# Altium footprint library 1-Pcblib_Res.PcbLib: 58 footprints (part 4 of 4)
Each footprint in its own frame and in the unit in brackets; x right, y up, seen from the top. Pads: shape width x height; smd on the part's side, far side on the other; paste and mask are expansions set on the pad; w line width, h text height; cw(c..) or ccw(c..) is an arc to the next point about the centre after c.
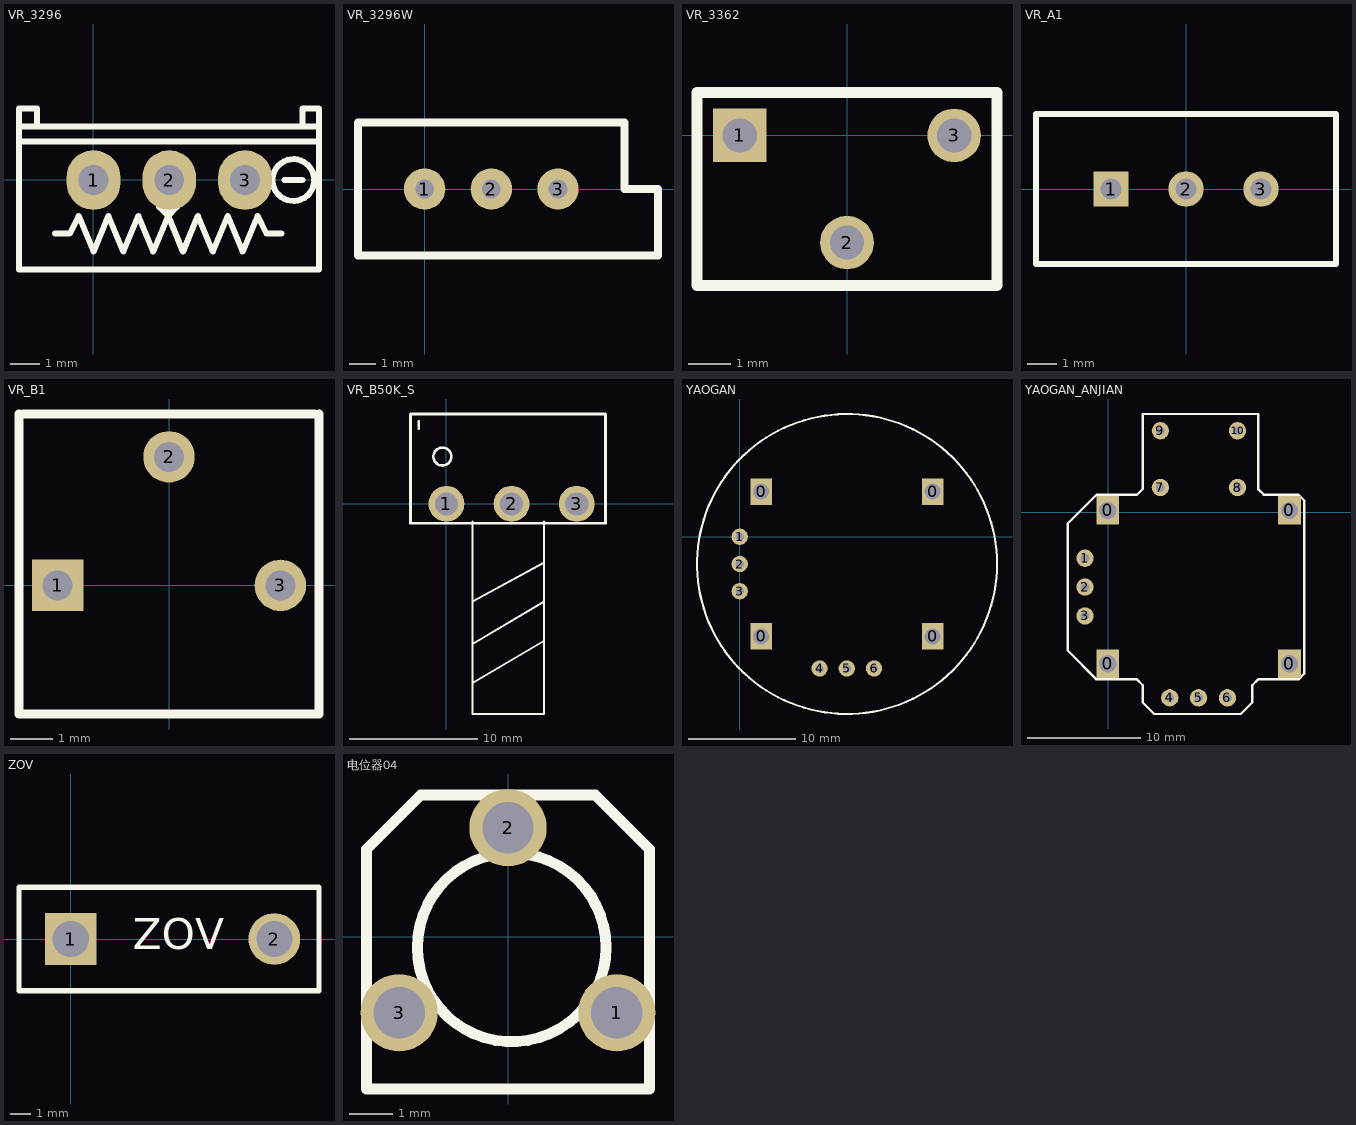
[diagram p3: the footprints below, top view; thin cyan lines are the x and y axes]

## VR_3296 [mm]
pads (3):
  oval 1.8x2 hole 1: 1(0.01,-0.013) 2(2.55,-0.013) 3(5.09,-0.013)
Top Overlay:
  circle w0.2: c6.71,-0.013 r0.7
  lines w0.2: -2.49,1.287 7.51,1.287 ; -1.89,1.787 -1.89,2.387 -2.49,2.387 -2.49,1.787 ; -1.29,-1.813 -0.79,-1.813 -0.49,-1.213 0.01,-2.413 0.51,-1.213 1.01,-2.413 1.51,-1.213 2.01,-2.413 2.51,-1.213 ; 2.21,-0.913 2.51,-1.213 ; 2.51,-0.013 2.51,-1.213 ; 2.81,-0.913 2.51,-1.213 ; 6.31,-1.813 5.81,-1.813 5.51,-1.213 5.01,-2.413 4.51,-1.213 4.01,-2.413 3.51,-1.213 3.01,-2.413 2.51,-1.213 ; 6.41,-0.013 7.01,-0.013 ; 7.01,1.787 7.01,2.387 7.51,2.387 ; 7.51,-3.013 -2.49,-3.013 -2.49,1.787 ; 7.51,1.787 -2.49,1.787 ; 7.57,-3.013 7.57,1.787 7.57,2.387

## VR_3296W [mil]
pads (3):
  round 62 hole 28: 1(0,0) 2(100,0) 3(200,0)
Top Overlay:
  lines w12: -100,-100 -100,100 300,100 300,0 350,0 350,-100 -100,-100

## VR_3362 [mil]
pads (3):
  rect 50x50 hole 32: 1(-100,0)
  round 50 hole 32: 2(0,-100) 3(100,0)
Top Overlay:
  lines w10: -140,-140 140,-140 140,40 -140,40 -140,-100 -140,-140

## VR_A1 [mm] "Potentiometer; 3 Leads"
height 1.1
pads (3):
  rect 1.2x1.2 hole 0.7: 1(-2.54,0)
  round 1.2 hole 0.7: 2(0,0) 3(2.54,0)
Top Overlay:
  lines w0.2: -5.08,-2.54 -5.08,2.54 5.08,2.54 5.08,0 5.08,-2.54 -5.08,-2.54
3D body: height 11.55, standoff -1.6, extent -4.765,-2.387 4.765,2.413

## VR_B1 [mm] "Potentiometer; 3 Leads"
height 12
pads (3):
  rect 1.2x1.2 hole 0.7: 1(-2.6,0)
  round 1.2 hole 0.7: 2(0,3) 3(2.6,0)
Top Overlay:
  lines w0.2: -3.5,4 -3.5,-3 3.5,-3 3.5,4 ; -3.4,4 3.4,4
3D body: height 4.7, standoff -5.47, extent -3.173,-3.302 3.427,3.752

## VR_B50K_S [mm]
pads (3):
  round 2.8 hole 1.8: 1(0,0) 2(5.08,0) 3(10.16,0)
Top Overlay:
  circle w0.2: c-0.319,3.683 r0.7
  lines w0.152: 2.032,-13.97 7.62,-10.668 ; 2.032,-10.922 7.62,-7.62 ; 2.032,-7.62 7.62,-4.572 ; 2.032,-1.383 2.032,-16.383 7.62,-16.383 7.62,-1.383
  lines w0.2: -2.159,5.842 -2.159,6.442 ; -2.8,-1.513 -2.8,7 12.4,7 12.4,-1.5 -2.8,-1.513

## YAOGAN [mm]
pads (10):
  rect 2x2.5 hole 1.5: 0(2,-9.29) 0(2,4.21) 0(18,-9.29) 0(18,4.21)
  round 1.524 hole 0.762: 1(0,0) 2(0,-2.54) 3(0,-5.08) 4(7.46,-12.29) 5(10,-12.29) 6(12.54,-12.29)
Top Overlay:
  circle w0.2: c10.015,-2.54 r14

## YAOGAN_ANJIAN [mil]
pads (14):
  rect 78.74x98.43 hole 59.06: 0(-1.26,-525.75) 0(-1.26,5.75) 0(628.66,-525.75) 0(628.66,5.75)
  round 60 hole 30: 1(-80,-160) 2(-80,-260) 3(-80,-360) 4(213.7,-643.86) 5(313.7,-643.86) 6(413.7,-643.86) 7(181.1,85.04) 8(448.82,85.04) 9(181.1,281.89) 10(448.82,281.89)
Top Overlay:
  lines w7.87: -140,-480 -40,-580 100,-580 120,-600 120,-660 140,-680 160,-700 460,-700 500,-660 500,-620 500,-600 520,-580 660,-580 680,-560 680,40 660,60 540,60 520,80 520,340 120,340 120,320 120,80 100,60 -40,60 -140,-40 -140,-480

## ZOV [mil] "压敏电阻"
pads (2):
  rect 100x100 hole 70: 1(0,0)
  round 100 hole 70: 2(393.7,0)
Top Overlay:
  lines w10: -100,-100 -100,100 400,100 480,100 480,-100 400,-100 -100,-100
  text "ZOV" at 120,-20 h60

## 电位器04 [mm] "6mm圆形金属陶瓷微调电位器"
height 10
pads (3):
  round 1.8 hole 1.2: 1(2.54,-1.778) 2(0,2.54) 3(-2.54,-1.778)
Top Overlay:
  circle w0.254: c0.086,-0.254 r2.2
  lines w0.25: -3.302,-3.556 -3.302,2.032 -2.032,3.302 2.032,3.302 3.302,2.032 3.302,-3.556 -3.302,-3.556